# EAGLE library part CR22A-30D-2.54DS (library card_edge)
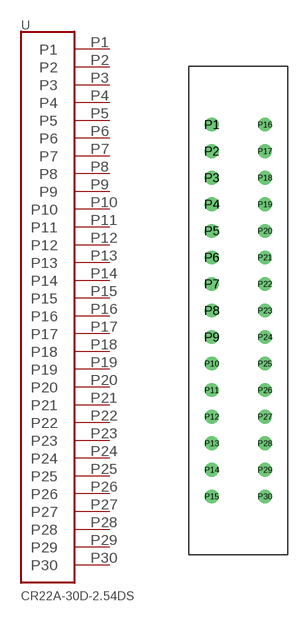
[diagram p0: symbol with the pads of CR22A-30D-2.54DS; footprint CR22A-30D-2.54DS]

Designator prefix -

## CR22A-30D-2.54DS  [CR22A-30D-2.54DS]
P1  P1
P2  P2
P3  P3
P4  P4
P5  P5
P6  P6
P7  P7
P8  P8
P9  P9
P10  P10
P11  P11
P12  P12
P13  P13
P14  P14
P15  P15
P16  P16
P17  P17
P18  P18
P19  P19
P20  P20
P21  P21
P22  P22
P23  P23
P24  P24
P25  P25
P26  P26
P27  P27
P28  P28
P29  P29
P30  P30

## Footprint CR22A-30D-2.54DS (pad centres in mm)
drill 0.8: P1 -2.54,17.78; P2 -2.54,15.24; P3 -2.54,12.7; P4 -2.54,10.16; P5 -2.54,7.62; P6 -2.54,5.08; P7 -2.54,2.54; P8 -2.54,0; P9 -2.54,-2.54; P10 -2.54,-5.08; P11 -2.54,-7.62; P12 -2.54,-10.16; P13 -2.54,-12.7; P14 -2.54,-15.24; P15 -2.54,-17.78; P16 2.54,17.78; P17 2.54,15.24; P18 2.54,12.7; P19 2.54,10.16; P20 2.54,7.62; P21 2.54,5.08; P22 2.54,2.54; P23 2.54,0; P24 2.54,-2.54; P25 2.54,-5.08; P26 2.54,-7.62; P27 2.54,-10.16; P28 2.54,-12.7; P29 2.54,-15.24; P30 2.54,-17.78